# EAGLE library part TCS3472 (library GadgetFactory_v1)
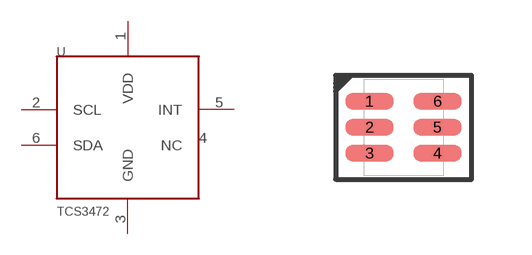
[diagram p58: symbol with the pads of DFN6-TCS; footprint DFN6-TCS]

Designator prefix U

## TCS3472FN  [DFN6-TCS]
1  VDD  pwr
2  SCL  in
3  GND  pas
4  NC  nc
5  INT  out
6  SDA

## Footprint DFN6-TCS (pad centres in mm)
smd 1.2 x 0.4: 1 -0.935,0.545; 2 -0.935,-0.105; 3 -0.935,-0.755; 4 0.765,-0.755; 5 0.765,-0.105; 6 0.765,0.545